# Altium integrated library TI Logic Multifunction.IntLib: 4 symbols
Pins are listed as number, name and electrical type; pins without a type are passive.

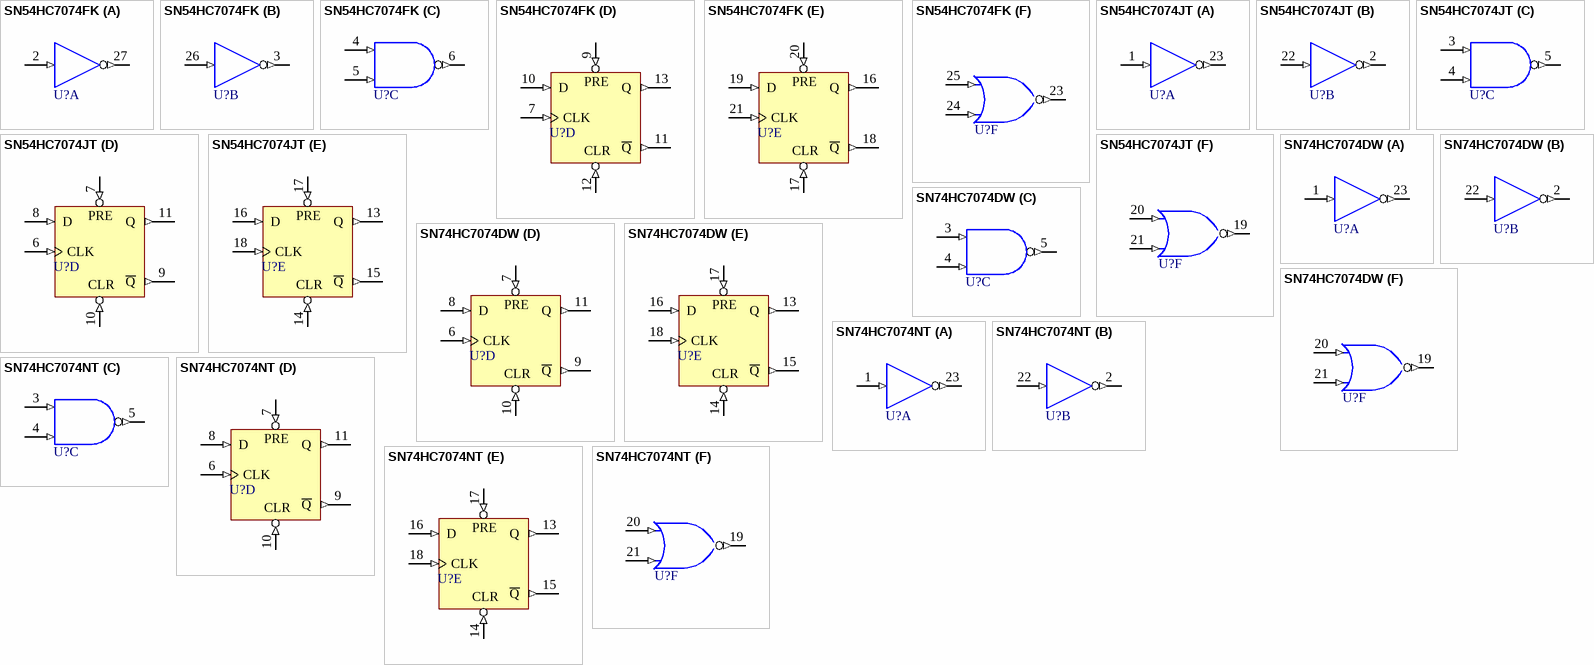
[diagram p0: symbols SN54HC7074FK to SN74HC7074NT]

## SN54HC7074FK
designator U?
6-Section Multifunction (NAND, Invert, NOR, Flip-Flop) Circuit; ComponentAvailability: Not Available; Note: Pins 1, 8, 15 and 22 are not connected and not drawn; Published: 8-Jun-2000; LatestRevisionDate: 17-Jul-2002; LatestRevisionNote: Re-released for DXP Platform.; DatasheetVersion: Sep-1987; PackageVersion: 1998; PackageReference: FK028C; Publisher: Altium Limited; PackageDescription: Leadless Chip Carrier; 28 Terminals; Body 11.4 x 11.4 mm; ComponentLink1Description: Manufacturer Link; ComponentLink1URL: http://www.ti.com/; ComponentLink2Description: Datasheet; ComponentLink2URL: http://www-s.ti.com/sc/ds/sn74hc7074.pdf
footprint FK028C (Leadless Chip Carrier; 28 Terminals; Body 11.4 x 11.4 mm)
signal-integrity model SN54HC7074FK
pins on every part: 14 GND (power) hidden to GND, 28 VCC (power) hidden to VCC
part A pins: 2 A (in), 27 Y (out)
part B pins: 3 Y (out), 26 A (in)
part C pins: 4 A (in), 5 B (in), 6 Y (out)
part D pins: 7 CLK (in), 9 ~{PRE} (in), 10 D (in), 11 ~{Q} (out), 12 ~{CLR} (in), 13 Q (out)
part E pins: 16 Q (out), 17 ~{CLR} (in), 18 ~{Q} (out), 19 D (in), 20 ~{PRE} (in), 21 CLK (in)
part F pins: 23 Y (out), 24 B (in), 25 A (in)
part D text: PRE; CLR
part E text: PRE; CLR

## SN54HC7074JT
designator U?
6-Section Multifunction (NAND, Invert, NOR, Flip-Flop) Circuit; ComponentAvailability: Not Available; Published: 8-Jun-2000; LatestRevisionDate: 04-Mar-2005; LatestRevisionNote: Stylized 3D Model Added.; DatasheetVersion: Sep-1987; PackageVersion: Jan-1997; PackageReference: JT024C; Publisher: Altium Limited; PackageDescription: DIP; 24 Leads; Row Spacing 7.62 mm; Pitch 2.54 mm; Code_JEDEC: MS-001-AF; ComponentLink1Description: Manufacturer Link; ComponentLink1URL: http://www.ti.com/; ComponentLink2Description: Datasheet; ComponentLink2URL: http://www-s.ti.com/sc/ds/sn74hc7074.pdf
footprint JT024C (DIP; 24 Leads; Row Spacing 7.62 mm; Pitch 2.54 mm)
3D model JT024 (DIP; 24 Leads; Row Spacing 7.62 mm; Pitch 2.54 mm)
signal-integrity model SN54HC7074JT
pins on every part: 12 GND (power) hidden to GND, 24 VCC (power) hidden to VCC
part A pins: 1 A (in), 23 Y (out)
part B pins: 2 Y (out), 22 A (in)
part C pins: 3 A (in), 4 B (in), 5 Y (out)
part D pins: 6 CLK (in), 7 ~{PRE} (in), 8 D (in), 9 ~{Q} (out), 10 ~{CLR} (in), 11 Q (out)
part E pins: 13 Q (out), 14 ~{CLR} (in), 15 ~{Q} (out), 16 D (in), 17 ~{PRE} (in), 18 CLK (in)
part F pins: 19 Y (out), 20 A (in), 21 B (in)
part D text: PRE; CLR
part E text: PRE; CLR

## SN74HC7074DW
designator U?
6-Section Multifunction (NAND, Invert, NOR, Flip-Flop) Circuit; ComponentAvailability: Not Available; Published: 8-Jun-2000; LatestRevisionDate: 13-Apr-2006; LatestRevisionNote: IPC-7351 Footprint Added.; DatasheetVersion: Sep-1987; PackageVersion: Mar-2000; PackageReference: DW024; Publisher: Altium Limited; PackageDescription: 24-Pin Plastic Small Outline Integrated Circuit 1.27 mm Pitch; Code_JEDEC: MS-013; ComponentLink1Description: Manufacturer Link; ComponentLink1URL: http://www.ti.com/; ComponentLink2Description: Datasheet; ComponentLink2URL: http://www-s.ti.com/sc/ds/sn74hc7074.pdf
footprint DW024_N (SOIC, 24-Leads, Body 15.4x7.5mm, Pitch 1.27mm, IPC Medium Density)
footprint DW024_L (SOIC, 24-Leads, Body 15.4x7.5mm, Pitch 1.27mm, IPC High Density)
footprint DW024_M (SOIC, 24-Leads, Body 15.4x7.5mm, Pitch 1.27mm, IPC Low Density)
3D model DW024 (24-Pin Plastic Small Outline Integrated Circuit 1.27 mm Pitch)
signal-integrity model SN74HC7074DW
pins on every part: 12 GND (power) hidden to GND, 24 VCC (power) hidden to VCC
part A pins: 1 A (in), 23 Y (out)
part B pins: 2 Y (out), 22 A (in)
part C pins: 3 A (in), 4 B (in), 5 Y (out)
part D pins: 6 CLK (in), 7 ~{PRE} (in), 8 D (in), 9 ~{Q} (out), 10 ~{CLR} (in), 11 Q (out)
part E pins: 13 Q (out), 14 ~{CLR} (in), 15 ~{Q} (out), 16 D (in), 17 ~{PRE} (in), 18 CLK (in)
part F pins: 19 Y (out), 20 A (in), 21 B (in)
part D text: PRE; CLR
part E text: PRE; CLR

## SN74HC7074NT
designator U?
6-Section Multifunction (NAND, Invert, NOR, Flip-Flop) Circuit; ComponentAvailability: Not Available; Published: 8-Jun-2000; LatestRevisionDate: 04-Mar-2005; LatestRevisionNote: Stylized 3D Model Added.; DatasheetVersion: Sep-1987; PackageVersion: Oct-1994; PackageReference: NT024C; Publisher: Altium Limited; PackageDescription: DIP; 24 Leads; Row Spacing 7.62 mm; Pitch 2.54 mm; Code_JEDEC: MS-001-AF; ComponentLink1Description: Manufacturer Link; ComponentLink1URL: http://www.ti.com/; ComponentLink2Description: Datasheet; ComponentLink2URL: http://www-s.ti.com/sc/ds/sn74hc7074.pdf
footprint NT024C (DIP; 24 Leads; Row Spacing 7.62 mm; Pitch 2.54 mm)
3D model JT024 (DIP; 24 Leads; Row Spacing 7.62 mm; Pitch 2.54 mm)
signal-integrity model SN74HC7074NT
pins on every part: 12 GND (power) hidden to GND, 24 VCC (power) hidden to VCC
part A pins: 1 A (in), 23 Y (out)
part B pins: 2 Y (out), 22 A (in)
part C pins: 3 A (in), 4 B (in), 5 Y (out)
part D pins: 6 CLK (in), 7 ~{PRE} (in), 8 D (in), 9 ~{Q} (out), 10 ~{CLR} (in), 11 Q (out)
part E pins: 13 Q (out), 14 ~{CLR} (in), 15 ~{Q} (out), 16 D (in), 17 ~{PRE} (in), 18 CLK (in)
part F pins: 19 Y (out), 20 A (in), 21 B (in)
part D text: PRE; CLR
part E text: PRE; CLR